# EAGLE library part CS5381 (library NewSDR)
120 dB, 192 KHz, 24-Bit Audio A/D Converter
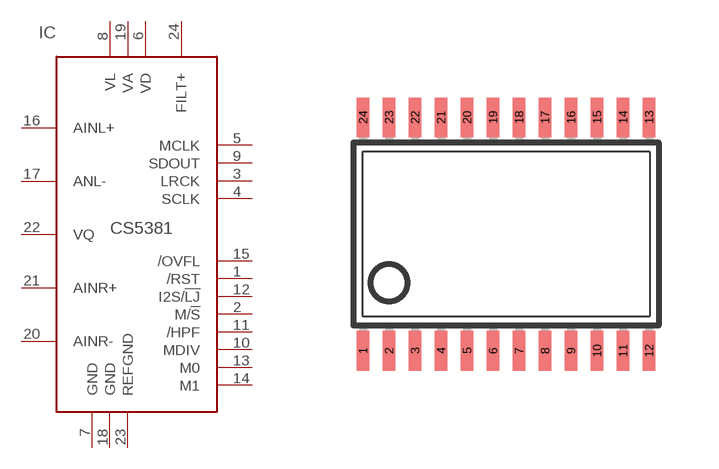
[diagram p0: symbol with the pads of TSSOP24; footprint TSSOP24]

Designator prefix IC

## CS5381  [TSSOP24]
1  /RST  in
2  M/!S  in
3  LRCK
4  SCLK
5  MCLK  in
6  VD  pwr
7  GND  pwr
8  VL  pwr
9  SDOUT  out
10  MDIV  in
11  /HPF  in
12  I2S/!LJ  in
13  M0  in
14  M1  in
15  /OVFL  out
16  AINL+  in
17  ANL-  in
18  GND  pwr
19  VA  pwr
20  AINR-  in
21  AINR+  in
22  VQ
23  REFGND  pwr
24  FILT+  pwr

## Footprint TSSOP24 (pad centres in mm)
Thin Shrink Small Outline Plastic 24 Source: MAX3223-MAX3243.pdf
smd 0.305 x 0.991: 1 -3.575,-2.918; 2 -2.925,-2.918; 3 -2.275,-2.918; 4 -1.625,-2.918; 5 -0.975,-2.918; 6 -0.325,-2.918; 7 0.325,-2.918; 8 0.975,-2.918; 9 1.625,-2.918; 10 2.275,-2.918; 11 2.925,-2.918; 12 3.575,-2.918; 13 3.575,2.918; 14 2.925,2.918; 15 2.275,2.918; 16 1.625,2.918; 17 0.975,2.918; 18 0.325,2.918; 19 -0.325,2.918; 20 -0.975,2.918; 21 -1.625,2.918; 22 -2.275,2.918; 23 -2.925,2.918; 24 -3.575,2.918